# Altium integrated library NSC Interface Line Driver.IntLib: 119 symbols (part 3 of 3)
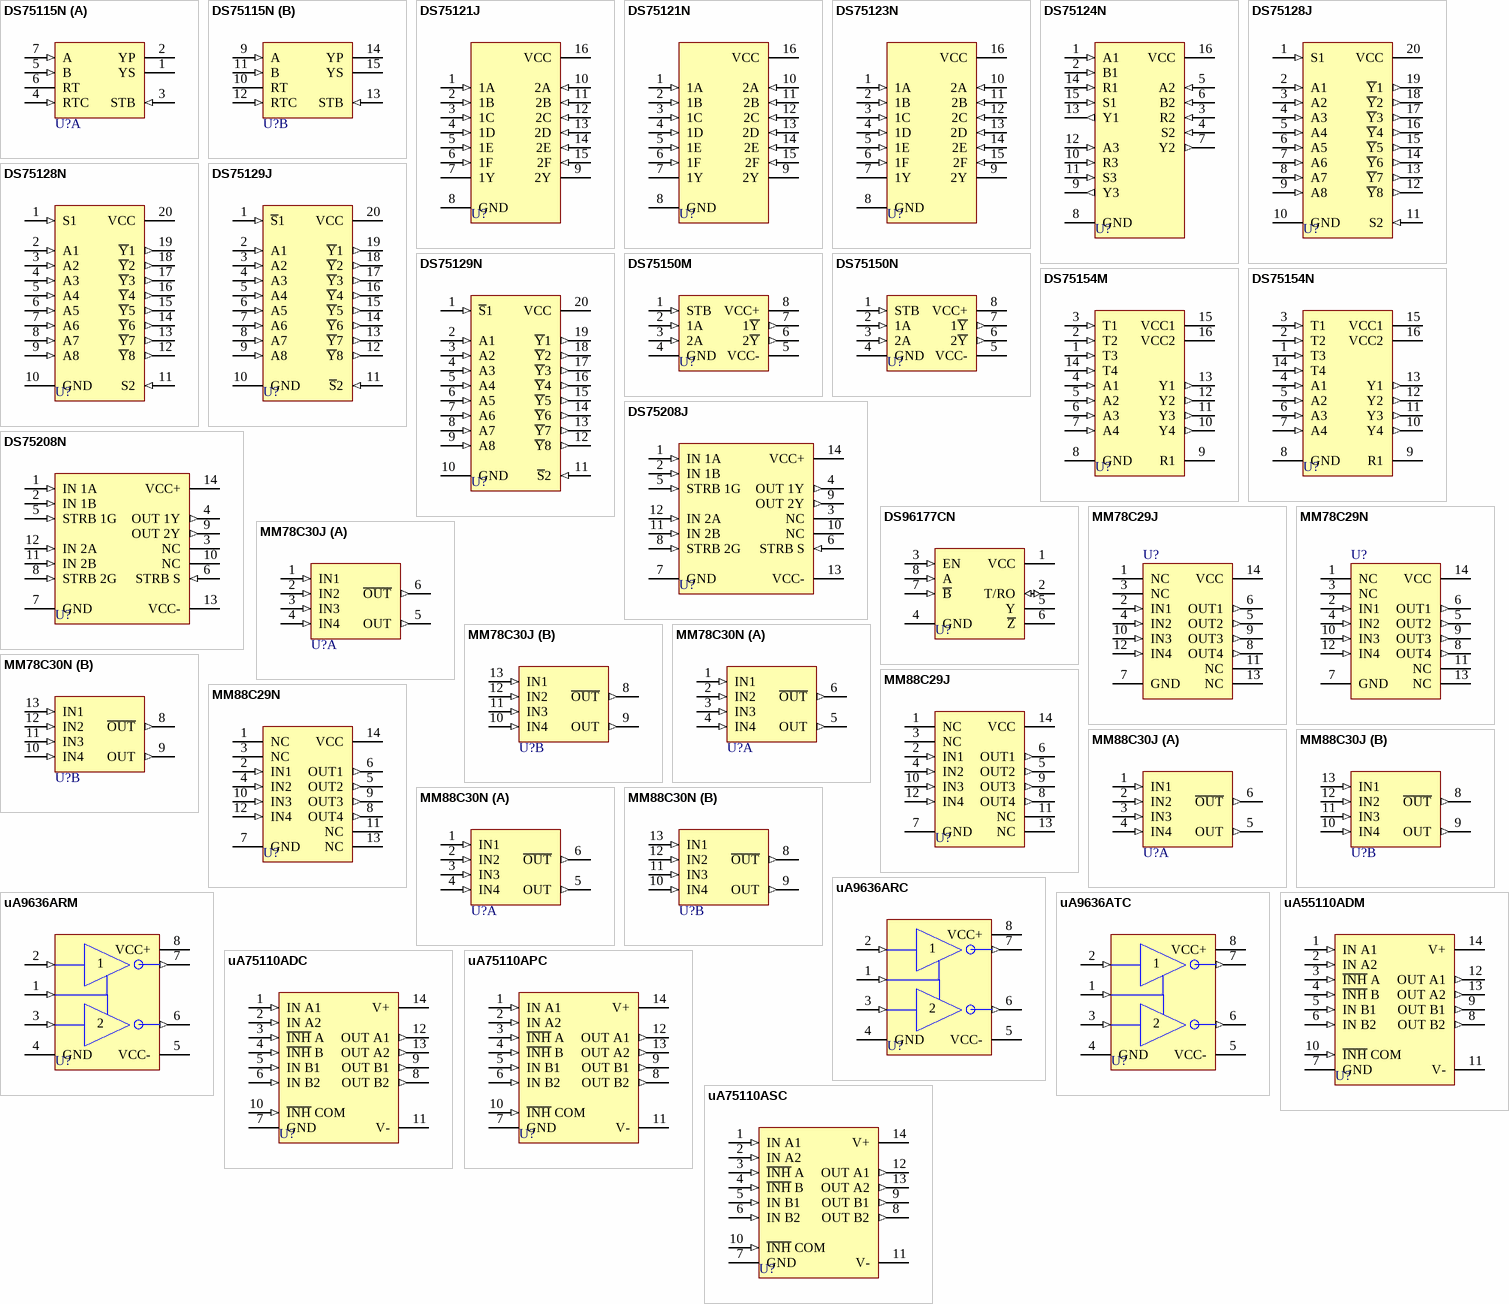
[diagram p5: symbols DS75115N to uA75110ASC]

## DS75154M
designator U?
Quad Line Receiver; Note: When using VCC2, VCC1 must be left open or connected to the threshold control pins.; ComponentAvailability: Obsolete; Published: 15-Apr-2002; LatestRevisionDate: 13-Apr-2006; LatestRevisionNote: IPC-7351 Footprint Added.; DatasheetVersion: 1996; PackageVersion: 2000; PackageReference: M16A; Publisher: Altium Limited; PackageDescription: 16-Pin Small Outline Integrated Circuit 1.27 mm Pitch; Code_IPC: SOIC127P600-16; ComponentLink1Description: Manufacturer Link; ComponentLink1URL: http://www.national.com/; ComponentLink2Description: Datasheet; ComponentLink2URL: http://www.national.com/ds.cgi/DS/DS75154.pdf; ComponentLink3Description: Discontinuation Notice; ComponentLink3URL: http://www.national.com/obs/obsolescence.txt; ComponentLink4Description: URL Link1; ComponentLink4URL: http://www.national.com/pf/DS/DS75154.html
footprint M16A_N (SOIC, 16-Leads, Body 9.9x3.9mm, Pitch 1.27mm, IPC Medium Density)
footprint M16A_L (SOIC, 16-Leads, Body 9.9x3.9mm, Pitch 1.27mm, IPC High Density)
footprint M16A_M (SOIC, 16-Leads, Body 9.9x3.9mm, Pitch 1.27mm, IPC Low Density)
3D model M16A (16-Pin Small Outline Integrated Circuit 1.27 mm Pitch)
pins: 1 T3 (in), 2 T2 (in), 3 T1 (in), 4 A1 (in), 5 A2 (in), 6 A3 (in), 7 A4 (in), 8 GND (power), 9 R1, 10 Y4 (out), 11 Y3 (out), 12 Y2 (out), 13 Y1 (out), 14 T4 (in), 15 VCC1 (power), 16 VCC2 (power)

## DS75154N
designator U?
Quad Line Receiver; Note: When using VCC2, VCC1 must be left open or connected to the threshold control pins.; ComponentAvailability: Obsolete; Published: 15-Apr-2002; LatestRevisionDate: 06-Jun-2005; LatestRevisionNote: Stylized 3D Model Added.; DatasheetVersion: 1996; PackageVersion: 2000; PackageReference: N16A; Publisher: Altium Limited; PackageDescription: DIP; 16 Leads; Row Spacing 7.62 mm; Pitch 2.54 mm; ComponentLink1Description: Manufacturer Link; ComponentLink1URL: http://www.national.com/; ComponentLink2Description: Datasheet; ComponentLink2URL: http://www.national.com/ds.cgi/DS/DS75154.pdf; ComponentLink3Description: Discontinuation Notice; ComponentLink3URL: http://www.national.com/obs/obsolescence.txt; ComponentLink4Description: URL Link1; ComponentLink4URL: http://www.national.com/pf/DS/DS75154.html
footprint N16A (DIP; 16 Leads; Row Spacing 7.62 mm; Pitch 2.54 mm)
3D model N16A (DIP; 16 Leads; Row Spacing 7.62 mm; Pitch 2.54 mm)
pins: 1 T3 (in), 2 T2 (in), 3 T1 (in), 4 A1 (in), 5 A2 (in), 6 A3 (in), 7 A4 (in), 8 GND (power), 9 R1, 10 Y4 (out), 11 Y3 (out), 12 Y2 (out), 13 Y1 (out), 14 T4 (in), 15 VCC1 (power), 16 VCC2 (power)

## DS75208J
designator U?
Dual Line Receiver; Published: 15-Apr-2002; LatestRevisionDate: 06-Jun-2005; LatestRevisionNote: Stylized 3D Model Added.; DatasheetVersion: 1990; PackageVersion: 2000; PackageReference: J14A; Publisher: Altium Limited; PackageDescription: DIP; 14 Leads; Row Spacing 7.62 mm; Pitch 2.54 mm; ComponentLink1Description: Manufacturer Link; ComponentLink1URL: http://www.national.com/
footprint J14A (DIP; 14 Leads; Row Spacing 7.62 mm; Pitch 2.54 mm)
3D model J14A (DIP; 14 Leads; Row Spacing 7.62 mm; Pitch 2.54 mm)
pins: 1 IN 1A (in), 2 IN 1B (in), 3 NC, 4 OUT 1Y (out), 5 STRB 1G (in), 6 STRB S (in), 7 GND (power), 8 STRB 2G (in), 9 OUT 2Y (out), 10 NC, 11 IN 2B (in), 12 IN 2A (in), 13 VCC- (power), 14 VCC+ (power)

## DS75208N
designator U?
Dual Line Receiver; ComponentAvailability: Obsolete; Published: 15-Apr-2002; LatestRevisionDate: 06-Jun-2005; LatestRevisionNote: Stylized 3D Model Added.; DatasheetVersion: 1996; PackageVersion: 2000; PackageReference: N14A; Publisher: Altium Limited; PackageDescription: DIP; 14 Leads; Row Spacing 7.62 mm; Pitch 2.54 mm; ComponentLink1Description: Manufacturer Link; ComponentLink1URL: http://www.national.com/; ComponentLink2Description: Discontinuation Notice; ComponentLink2URL: http://www.national.com/obs/obsolescence.txt
footprint N14A (DIP; 14 Leads; Row Spacing 7.62 mm; Pitch 2.54 mm)
3D model N14A (DIP; 14 Leads; Row Spacing 7.62 mm; Pitch 2.54 mm)
pins: 1 IN 1A (in), 2 IN 1B (in), 3 NC, 4 OUT 1Y (out), 5 STRB 1G (in), 6 STRB S (in), 7 GND (power), 8 STRB 2G (in), 9 OUT 2Y (out), 10 NC, 11 IN 2B (in), 12 IN 2A (in), 13 VCC- (power), 14 VCC+ (power)

## DS96177CN
designator U?
RS-485/RS-422 Differential Bus Repeater; ComponentAvailability: Obsolete; Published: 15-Apr-2002; LatestRevisionDate: 06-Jun-2005; LatestRevisionNote: Stylized 3D Model Added.; DatasheetVersion: Oct-1993; PackageVersion: Sep-1997; PackageReference: N08E; Publisher: Altium Limited; PackageDescription: DIP; 8 Leads; Row Spacing 7.62 mm; Pitch 2.54 mm; ComponentLink1Description: Manufacturer Link; ComponentLink1URL: http://www.national.com/; ComponentLink2Description: Datasheet; ComponentLink2URL: http://www.national.com/ds.cgi/DS/DS96177.pdf; ComponentLink3Description: Discontinuation Notice; ComponentLink3URL: http://www.national.com/obs/obsolescence.txt; ComponentLink4Description: URL Link1; ComponentLink4URL: http://www.national.com/pf/DS/DS96177.html
footprint N08E (DIP; 8 Leads; Row Spacing 7.62 mm; Pitch 2.54 mm)
3D model N08E (DIP; 8 Leads; Row Spacing 7.62 mm; Pitch 2.54 mm)
pins: 1 VCC (power), 2 T/RO (io), 3 EN (in), 4 GND (power), 5 Y (hiz), 6 ~{Z} (hiz), 7 ~{B} (in), 8 A (in)

## MM78C29J
designator U?
Quad Single-Ended Line Driver; Published: 15-Apr-2002; LatestRevisionDate: 06-Jun-2005; LatestRevisionNote: Stylized 3D Model Added.; DatasheetVersion: Feb-1996; PackageVersion: 2000; PackageReference: J14A; Publisher: Altium Limited; PackageDescription: DIP; 14 Leads; Row Spacing 7.62 mm; Pitch 2.54 mm; ComponentLink1Description: Manufacturer Link; ComponentLink1URL: http://www.national.com/; ComponentLink2Description: Datasheet; ComponentLink2URL: http://www.national.com/ds.cgi/MM/MM78C29.pdf; ComponentLink3Description: URL Link1; ComponentLink3URL: http://www.national.com/pf/MM/MM78C29.html
footprint J14A (DIP; 14 Leads; Row Spacing 7.62 mm; Pitch 2.54 mm)
3D model J14A (DIP; 14 Leads; Row Spacing 7.62 mm; Pitch 2.54 mm)
pins: 1 NC, 2 IN1 (in), 3 NC, 4 IN2 (in), 5 OUT2 (out), 6 OUT1 (out), 7 GND (power), 8 OUT4 (out), 9 OUT3 (out), 10 IN3 (in), 11 NC, 12 IN4 (in), 13 NC, 14 VCC (power)

## MM78C29N
designator U?
Quad Single-Ended Line Driver; Published: 15-Apr-2002; LatestRevisionDate: 06-Jun-2005; LatestRevisionNote: Stylized 3D Model Added.; DatasheetVersion: Feb-1996; PackageVersion: 2000; PackageReference: N14A; Publisher: Altium Limited; PackageDescription: DIP; 14 Leads; Row Spacing 7.62 mm; Pitch 2.54 mm; ComponentLink1Description: Manufacturer Link; ComponentLink1URL: http://www.national.com/; ComponentLink2Description: Datasheet; ComponentLink2URL: http://www.national.com/ds.cgi/MM/MM78C29.pdf; ComponentLink3Description: URL Link1; ComponentLink3URL: http://www.national.com/pf/MM/MM78C29.html
footprint N14A (DIP; 14 Leads; Row Spacing 7.62 mm; Pitch 2.54 mm)
3D model N14A (DIP; 14 Leads; Row Spacing 7.62 mm; Pitch 2.54 mm)
pins: 1 NC, 2 IN1 (in), 3 NC, 4 IN2 (in), 5 OUT2 (out), 6 OUT1 (out), 7 GND (power), 8 OUT4 (out), 9 OUT3 (out), 10 IN3 (in), 11 NC, 12 IN4 (in), 13 NC, 14 VCC (power)

## MM78C30J
designator U?
Dual Differential Line Driver; Published: 15-Apr-2002; LatestRevisionDate: 06-Jun-2005; LatestRevisionNote: Stylized 3D Model Added.; DatasheetVersion: Feb-1996; PackageVersion: 2000; PackageReference: J14A; Publisher: Altium Limited; PackageDescription: DIP; 14 Leads; Row Spacing 7.62 mm; Pitch 2.54 mm; ComponentLink1Description: Manufacturer Link; ComponentLink1URL: http://www.national.com/; ComponentLink2Description: Datasheet; ComponentLink2URL: http://www.national.com/ds.cgi/MM/MM78C29.pdf; ComponentLink3Description: URL Link1; ComponentLink3URL: http://www.national.com/pf/MM/MM78C30.html
footprint J14A (DIP; 14 Leads; Row Spacing 7.62 mm; Pitch 2.54 mm)
3D model J14A (DIP; 14 Leads; Row Spacing 7.62 mm; Pitch 2.54 mm)
pins on every part: 7 GND (power) hidden to GND, 14 VCC (power) hidden to VCC
part A pins: 1 IN1 (in), 2 IN2 (in), 3 IN3 (in), 4 IN4 (in), 5 OUT (out), 6 ~{OUT} (out)
part B pins: 8 ~{OUT} (out), 9 OUT (out), 10 IN4 (in), 11 IN3 (in), 12 IN2 (in), 13 IN1 (in)

## MM78C30N
designator U?
Dual Differential Line Driver; Published: 15-Apr-2002; LatestRevisionDate: 06-Jun-2005; LatestRevisionNote: Stylized 3D Model Added.; DatasheetVersion: Feb-1996; PackageVersion: 2000; PackageReference: N14A; Publisher: Altium Limited; PackageDescription: DIP; 14 Leads; Row Spacing 7.62 mm; Pitch 2.54 mm; ComponentLink1Description: Manufacturer Link; ComponentLink1URL: http://www.national.com/; ComponentLink2Description: Datasheet; ComponentLink2URL: http://www.national.com/ds.cgi/MM/MM78C29.pdf; ComponentLink3Description: URL Link1; ComponentLink3URL: http://www.national.com/pf/MM/MM78C30.html
footprint N14A (DIP; 14 Leads; Row Spacing 7.62 mm; Pitch 2.54 mm)
3D model N14A (DIP; 14 Leads; Row Spacing 7.62 mm; Pitch 2.54 mm)
pins on every part: 7 GND (power) hidden to GND, 14 VCC (power) hidden to VCC
part A pins: 1 IN1 (in), 2 IN2 (in), 3 IN3 (in), 4 IN4 (in), 5 OUT (out), 6 ~{OUT} (out)
part B pins: 8 ~{OUT} (out), 9 OUT (out), 10 IN4 (in), 11 IN3 (in), 12 IN2 (in), 13 IN1 (in)

## MM88C29J
designator U?
Quad Single-Ended Line Driver; Published: 15-Apr-2002; LatestRevisionDate: 06-Jun-2005; LatestRevisionNote: Stylized 3D Model Added.; DatasheetVersion: Feb-1996; PackageVersion: 2000; PackageReference: J14A; Publisher: Altium Limited; PackageDescription: DIP; 14 Leads; Row Spacing 7.62 mm; Pitch 2.54 mm; ComponentLink1Description: Manufacturer Link; ComponentLink1URL: http://www.national.com/; ComponentLink2Description: Datasheet; ComponentLink2URL: http://www.national.com/ds.cgi/MM/MM78C29.pdf
footprint J14A (DIP; 14 Leads; Row Spacing 7.62 mm; Pitch 2.54 mm)
3D model J14A (DIP; 14 Leads; Row Spacing 7.62 mm; Pitch 2.54 mm)
pins: 1 NC, 2 IN1 (in), 3 NC, 4 IN2 (in), 5 OUT2 (out), 6 OUT1 (out), 7 GND (power), 8 OUT4 (out), 9 OUT3 (out), 10 IN3 (in), 11 NC, 12 IN4 (in), 13 NC, 14 VCC (power)

## MM88C29N
designator U?
Quad Single-Ended Line Driver; Published: 15-Apr-2002; LatestRevisionDate: 06-Jun-2005; LatestRevisionNote: Stylized 3D Model Added.; DatasheetVersion: Feb-1996; PackageVersion: 2000; PackageReference: N14A; Publisher: Altium Limited; PackageDescription: DIP; 14 Leads; Row Spacing 7.62 mm; Pitch 2.54 mm; ComponentLink1Description: Manufacturer Link; ComponentLink1URL: http://www.national.com/; ComponentLink2Description: Datasheet; ComponentLink2URL: http://www.national.com/ds.cgi/MM/MM78C29.pdf
footprint N14A (DIP; 14 Leads; Row Spacing 7.62 mm; Pitch 2.54 mm)
3D model N14A (DIP; 14 Leads; Row Spacing 7.62 mm; Pitch 2.54 mm)
pins: 1 NC, 2 IN1 (in), 3 NC, 4 IN2 (in), 5 OUT2 (out), 6 OUT1 (out), 7 GND (power), 8 OUT4 (out), 9 OUT3 (out), 10 IN3 (in), 11 NC, 12 IN4 (in), 13 NC, 14 VCC (power)

## MM88C30J
designator U?
Dual Differential Line Driver; Published: 15-Apr-2002; LatestRevisionDate: 06-Jun-2005; LatestRevisionNote: Stylized 3D Model Added.; DatasheetVersion: Feb-1996; PackageVersion: 2000; PackageReference: J14A; Publisher: Altium Limited; PackageDescription: DIP; 14 Leads; Row Spacing 7.62 mm; Pitch 2.54 mm; ComponentLink1Description: Manufacturer Link; ComponentLink1URL: http://www.national.com/; ComponentLink2Description: Datasheet; ComponentLink2URL: http://www.national.com/ds.cgi/MM/MM78C29.pdf
footprint J14A (DIP; 14 Leads; Row Spacing 7.62 mm; Pitch 2.54 mm)
3D model J14A (DIP; 14 Leads; Row Spacing 7.62 mm; Pitch 2.54 mm)
pins on every part: 7 GND (power) hidden to GND, 14 VCC (power) hidden to VCC
part A pins: 1 IN1 (in), 2 IN2 (in), 3 IN3 (in), 4 IN4 (in), 5 OUT (out), 6 ~{OUT} (out)
part B pins: 8 ~{OUT} (out), 9 OUT (out), 10 IN4 (in), 11 IN3 (in), 12 IN2 (in), 13 IN1 (in)

## MM88C30N
designator U?
Dual Differential Line Driver; Published: 15-Apr-2002; LatestRevisionDate: 06-Jun-2005; LatestRevisionNote: Stylized 3D Model Added.; DatasheetVersion: Feb-1996; PackageVersion: 2000; PackageReference: N14A; Publisher: Altium Limited; PackageDescription: DIP; 14 Leads; Row Spacing 7.62 mm; Pitch 2.54 mm; ComponentLink1Description: Manufacturer Link; ComponentLink1URL: http://www.national.com/; ComponentLink2Description: Datasheet; ComponentLink2URL: http://www.national.com/ds.cgi/MM/MM78C29.pdf
footprint N14A (DIP; 14 Leads; Row Spacing 7.62 mm; Pitch 2.54 mm)
3D model N14A (DIP; 14 Leads; Row Spacing 7.62 mm; Pitch 2.54 mm)
pins on every part: 7 GND (power) hidden to GND, 14 VCC (power) hidden to VCC
part A pins: 1 IN1 (in), 2 IN2 (in), 3 IN3 (in), 4 IN4 (in), 5 OUT (out), 6 ~{OUT} (out)
part B pins: 8 ~{OUT} (out), 9 OUT (out), 10 IN4 (in), 11 IN3 (in), 12 IN2 (in), 13 IN1 (in)

## uA9636ARC
designator U?
Dual Programmable Slew Rate Line Driver; Published: 15-Apr-2002; LatestRevisionDate: 06-Jun-2005; LatestRevisionNote: Stylized 3D Model Added.; DatasheetVersion: 1990; PackageVersion: 2000; PackageReference: J08A; Publisher: Altium Limited; PackageDescription: DIP; 8 Leads; Row Spacing 7.62 mm; Pitch 2.54 mm; ComponentLink1Description: Manufacturer Link; ComponentLink1URL: http://www.national.com/
footprint J08A (DIP; 8 Leads; Row Spacing 7.62 mm; Pitch 2.54 mm)
3D model N08E (DIP; 8 Leads; Row Spacing 7.62 mm; Pitch 2.54 mm)
pins: 1 CNTL (in), 2 1A (in), 3 2A (in), 4 GND (power), 5 VCC- (power), 6 2~{Y} (out), 7 1~{Y} (out), 8 VCC+ (power)

## uA9636ARM
designator U?
Dual Programmable Slew Rate Line Driver; Published: 15-Apr-2002; LatestRevisionDate: 06-Jun-2005; LatestRevisionNote: Stylized 3D Model Added.; DatasheetVersion: 1990; PackageVersion: 2000; PackageReference: J08A; Publisher: Altium Limited; PackageDescription: DIP; 8 Leads; Row Spacing 7.62 mm; Pitch 2.54 mm; ComponentLink1Description: Manufacturer Link; ComponentLink1URL: http://www.national.com/
footprint J08A (DIP; 8 Leads; Row Spacing 7.62 mm; Pitch 2.54 mm)
3D model N08E (DIP; 8 Leads; Row Spacing 7.62 mm; Pitch 2.54 mm)
pins: 1 CNTL (in), 2 1A (in), 3 2A (in), 4 GND (power), 5 VCC- (power), 6 2~{Y} (out), 7 1~{Y} (out), 8 VCC+ (power)

## uA9636ATC
designator U?
Dual Programmable Slew Rate Line Driver; Published: 15-Apr-2002; LatestRevisionDate: 06-Jun-2005; LatestRevisionNote: Stylized 3D Model Added.; DatasheetVersion: 1990; PackageVersion: Sep-1997; PackageReference: N08E; Publisher: Altium Limited; PackageDescription: DIP; 8 Leads; Row Spacing 7.62 mm; Pitch 2.54 mm; ComponentLink1Description: Manufacturer Link; ComponentLink1URL: http://www.national.com/
footprint N08E (DIP; 8 Leads; Row Spacing 7.62 mm; Pitch 2.54 mm)
3D model N08E (DIP; 8 Leads; Row Spacing 7.62 mm; Pitch 2.54 mm)
pins: 1 CNTL (in), 2 1A (in), 3 2A (in), 4 GND (power), 5 VCC- (power), 6 2~{Y} (out), 7 1~{Y} (out), 8 VCC+ (power)

## uA55110ADM
designator U?
Dual Line Driver; Published: 15-Apr-2002; LatestRevisionDate: 06-Jun-2005; LatestRevisionNote: Stylized 3D Model Added.; DatasheetVersion: 1990; PackageVersion: 2000; PackageReference: J14A; Publisher: Altium Limited; PackageDescription: DIP; 14 Leads; Row Spacing 7.62 mm; Pitch 2.54 mm; ComponentLink1Description: Manufacturer Link; ComponentLink1URL: http://www.national.com/
footprint J14A (DIP; 14 Leads; Row Spacing 7.62 mm; Pitch 2.54 mm)
3D model J14A (DIP; 14 Leads; Row Spacing 7.62 mm; Pitch 2.54 mm)
pins: 1 IN A1 (in), 2 IN A2 (in), 3 ~{INH} A (in), 4 ~{INH} B (in), 5 IN B1 (in), 6 IN B2 (in), 7 GND (power), 8 OUT B2 (out), 9 OUT B1 (out), 10 ~{INH} COM (in), 11 V- (power), 12 OUT A1 (out), 13 OUT A2 (out), 14 V+ (power)

## uA75110ADC
designator U?
Dual Line Driver; Published: 15-Apr-2002; LatestRevisionDate: 06-Jun-2005; LatestRevisionNote: Stylized 3D Model Added.; DatasheetVersion: 1990; PackageVersion: 2000; PackageReference: J14A; Publisher: Altium Limited; PackageDescription: DIP; 14 Leads; Row Spacing 7.62 mm; Pitch 2.54 mm; ComponentLink1Description: Manufacturer Link; ComponentLink1URL: http://www.national.com/
footprint J14A (DIP; 14 Leads; Row Spacing 7.62 mm; Pitch 2.54 mm)
3D model J14A (DIP; 14 Leads; Row Spacing 7.62 mm; Pitch 2.54 mm)
pins: 1 IN A1 (in), 2 IN A2 (in), 3 ~{INH} A (in), 4 ~{INH} B (in), 5 IN B1 (in), 6 IN B2 (in), 7 GND (power), 8 OUT B2 (out), 9 OUT B1 (out), 10 ~{INH} COM (in), 11 V- (power), 12 OUT A1 (out), 13 OUT A2 (out), 14 V+ (power)

## uA75110APC
designator U?
Dual Line Driver; Published: 15-Apr-2002; LatestRevisionDate: 06-Jun-2005; LatestRevisionNote: Stylized 3D Model Added.; DatasheetVersion: 1990; PackageVersion: 2000; PackageReference: N14A; Publisher: Altium Limited; PackageDescription: DIP; 14 Leads; Row Spacing 7.62 mm; Pitch 2.54 mm; ComponentLink1Description: Manufacturer Link; ComponentLink1URL: http://www.national.com/
footprint N14A (DIP; 14 Leads; Row Spacing 7.62 mm; Pitch 2.54 mm)
3D model N14A (DIP; 14 Leads; Row Spacing 7.62 mm; Pitch 2.54 mm)
pins: 1 IN A1 (in), 2 IN A2 (in), 3 ~{INH} A (in), 4 ~{INH} B (in), 5 IN B1 (in), 6 IN B2 (in), 7 GND (power), 8 OUT B2 (out), 9 OUT B1 (out), 10 ~{INH} COM (in), 11 V- (power), 12 OUT A1 (out), 13 OUT A2 (out), 14 V+ (power)

## uA75110ASC
designator U?
Dual Line Driver; Published: 15-Apr-2002; LatestRevisionDate: 13-Apr-2006; LatestRevisionNote: IPC-7351 Footprint Added.; DatasheetVersion: 1990; PackageVersion: 2000; PackageReference: M14A; Publisher: Altium Limited; PackageDescription: 14-Pin Small Outline Integrated Circuit 1.27 mm Pitch; Code_IPC: SOIC127P600-14; ComponentLink1Description: Manufacturer Link; ComponentLink1URL: http://www.national.com/
footprint M14A_N (SOIC, 14-Leads, Body 8.6x3.9mm, Pitch 1.27mm, IPC Medium Density)
footprint M14A_L (SOIC, 14-Leads, Body 8.6x3.9mm, Pitch 1.27mm, IPC High Density)
footprint M14A_M (SOIC, 14-Leads, Body 8.6x3.9mm, Pitch 1.27mm, IPC Low Density)
3D model M14A (14-Pin Small Outline Integrated Circuit 1.27 mm Pitch)
pins: 1 IN A1 (in), 2 IN A2 (in), 3 ~{INH} A (in), 4 ~{INH} B (in), 5 IN B1 (in), 6 IN B2 (in), 7 GND (power), 8 OUT B2 (out), 9 OUT B1 (out), 10 ~{INH} COM (in), 11 V- (power), 12 OUT A1 (out), 13 OUT A2 (out), 14 V+ (power)